# Altium footprint library FF_pcb_lib.PcbLib: 102 footprints (part 7 of 7)
Each footprint in its own frame and in the unit in brackets; x right, y up, seen from the top. Pads: shape width x height; smd on the part's side, far side on the other; paste and mask are expansions set on the pad; w line width, h text height; cw(c..) or ccw(c..) is an arc to the next point about the centre after c.
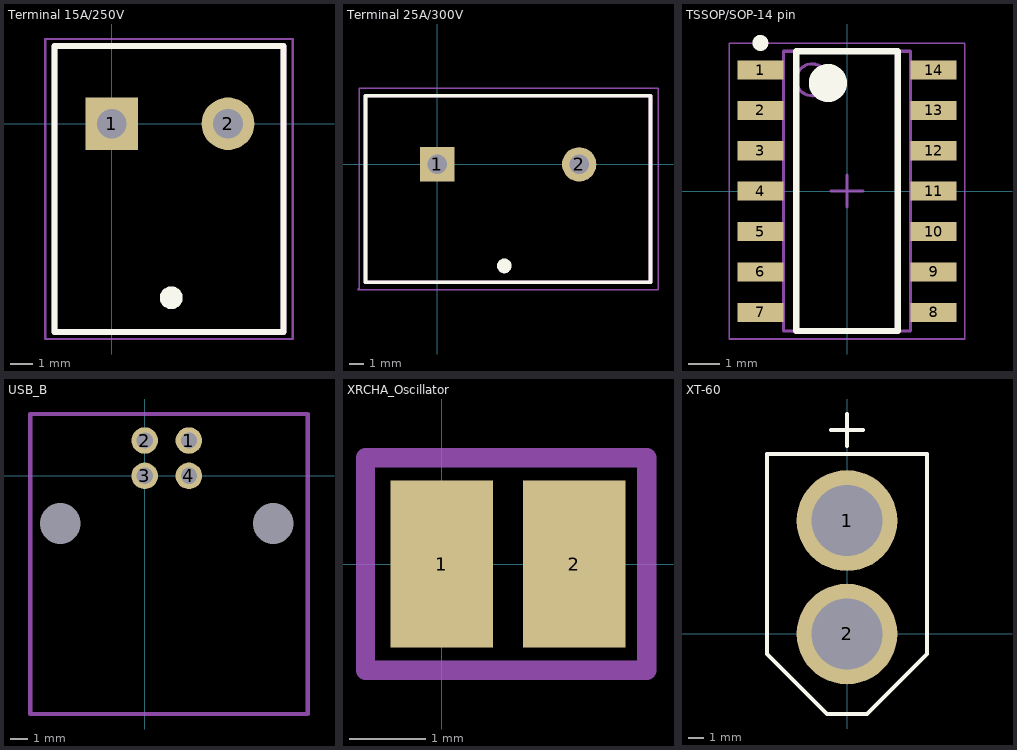
[diagram p6: the footprints below, top view; thin cyan lines are the x and y axes]

## Terminal 15A/250V [mm]
pads (3):
  rect 2.3x2.3 hole 1.3: 1(0,0)
  round 2.3 hole 1.3: 2(5.08,0)
  round 1 on Top Overlay: ""(2.6,-7.6)
Top Overlay:
  lines w0.254: -2.5,-9.1 -2.5,3.4 7.5,3.4 7.5,-9.1 0,-9.1 -2.5,-9.1
Mechanical 13:
  lines w0.254: -2.5,-9.1 0,-9.1 7.5,-9.1 7.5,3.4 -2.5,3.4 -2.5,-9.1
  text "'.Designator'" at -0.9,-4.4 h0.7
Mechanical 15:
  lines w0.1: -2.9,-9.4 -2.9,3.7 7.9,3.7 7.9,-9.4 -2.9,-9.4
3D body: height 9, standoff 0.1, extent 10.7,-3.6 10.7,-3.6
3D body: height 5.4, standoff 0.1, extent -2.3,-9 7.4,3.3

## Terminal 25A/300V [mm]
pads (3):
  rect 2.3x2.3 hole 1.3: 1(0,0)
  round 2.3 hole 1.3: 2(9.52,0)
  round 1 on Top Overlay: ""(4.5,-6.8)
Top Overlay:
  lines w0.254: -4.8,-7.9 14.3,-7.9 14.3,4.6 9.5,4.6 0,4.6 -4.8,4.6 -4.8,-7.9
Mechanical 13:
  lines w0.254: -4.8,-7.9 -4.8,4.6 0,4.6 9.5,4.6 14.3,4.6 14.3,-7.9 -4.8,-7.9
  text "'.Designator'" at 0.5,-3.4 h0.7
Mechanical 15:
  lines w0.1: -5.3,-8.4 14.8,-8.4 14.8,5.1 -5.2,5.1 -5.2,-8.3 -5.3,-8.4
3D body: height 21.5, standoff 0.1, extent -4.7,-7.8 14.2,4.5

## TSSOP/SOP-14 pin [mm] "1.27 pitch TSSOP/SOP 14 pin package"
height 1.75
pads (14):
  rect 1.45x0.6 smd: 1(-2.725,3.81) 2(-2.725,2.54) 3(-2.725,1.27) 4(-2.725,0) 5(-2.725,-1.27) 6(-2.725,-2.54) 7(-2.725,-3.81) 8(2.725,-3.81) 9(2.725,-2.54) 10(2.725,-1.27) 11(2.725,0) 12(2.725,1.27) 13(2.725,2.54) 14(2.725,3.81)
Top Overlay:
  circle w0.6: c-0.6,3.4 r0.3
  circle w0.25: c-2.725,4.66 r0.125
  lines w0.2: -1.6,-4.4 1.6,-4.4 1.6,4.4 -1.6,4.4 -1.6,-4.4
Top Assembly:
  circle w0.1: c-1.1,3.5 r0.5
  lines w0.1: -2,-4.4 2,-4.4 2,4.4 -2,4.4 -2,-4.4
Top Courtyard:
  lines w0.05: -3.7,-4.65 3.7,-4.65 3.7,4.65 -3.7,4.65 -3.7,-4.65
  lines w0.1: -0.5,0 0.5,0 ; 0,-0.5 0,0.5
3D body: height 1.75, standoff 0.1, extent -2,-4.4 2,4.4

## USB_B [mm]
pads (6):
  round 1.5 hole 0.92: 1(2.5,2) 2(0,2) 3(0,0) 4(2.5,0)
  round 1.524 hole 2.3: ""(-4.775,-2.7) ""(7.275,-2.7)
Courtyard:
  lines w0.254: -6.475,-13.475 9.225,-13.475 9.225,3.5 -6.475,3.5 -6.475,-13.475
3D body "USB 2.0 Type B Connector Right Angle (Würth 61400416121).stp": height 10.97, standoff -3.41, extent -6.147,-13.175 8.698,3.325

## XRCHA_Oscillator [mm]
pads (2):
  rect 1.35x2.2 smd: 1(0,0) 2(1.75,0)
Courtyard:
  lines w0.254: -1,-1.4 2.7,-1.4 2.7,1.4 -1,1.4 -1,-1.4
3D body: height 0.8, standoff 0, extent -0.35,-1 2.15,1

## XT-60 [mm]
pads (2):
  round 6.4 hole 4.5: 1(0,7.2) 2(0,0)
Top Overlay:
  lines w0.254: -1.016,12.95 1.016,12.95 ; 0,11.934 0,13.966 ; -5.08,-1.27 -1.27,-5.08 1.27,-5.08 5.08,-1.27 5.08,11.43 -5.08,11.43 -5.08,-1.27
Courtyard:
  lines w0.254: -5.08,11.43 5.08,11.43
3D body "XT60 Female Connector.STEP": height 15.5, standoff -3.33, extent -4.109,-4.413 4.019,11.522